# EAGLE library part ARUINO-MEGA (library iceberg20)
Arudino Mega 2560, 7-12V Datenblatt: Link <https://store.arduino.cc/mega-2560-r3>
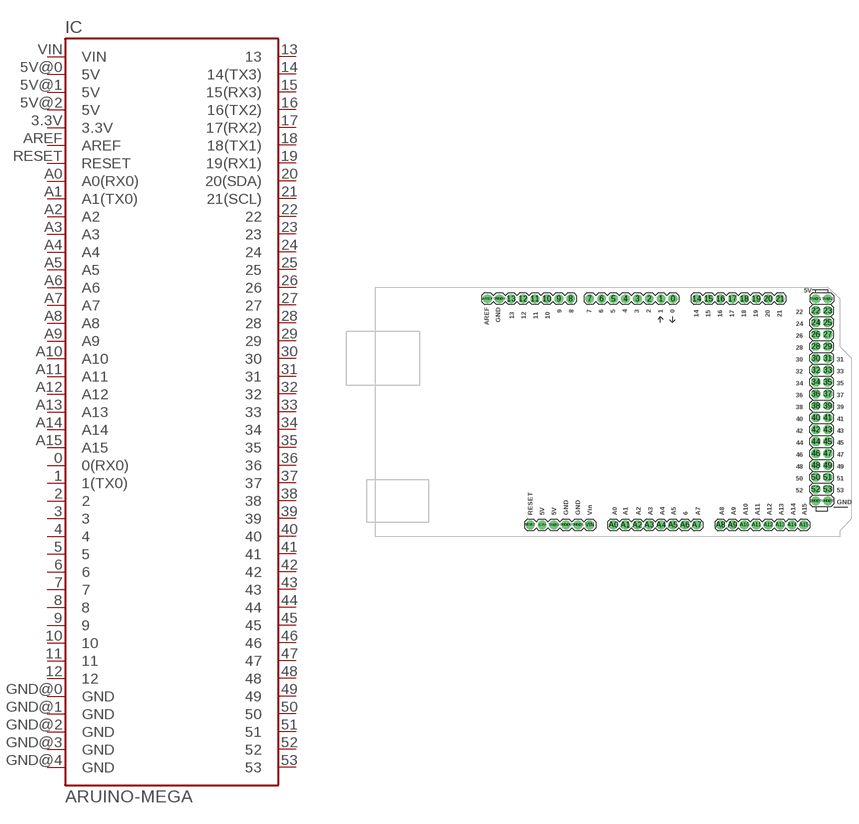
[diagram p2: symbol with the pads of ARDUINO_MEGA; footprint ARDUINO_MEGA]

Designator prefix IC

## ARUINO-MEGA (BESTAND: 4; HERSTELLER: Arduino; HERSTELLER-NR: Arduino Mega 2560; SUPPLIER: Makerstore; SUPPLIER-NR: Arduino Mega 2650)  [ARDUINO_MEGA]
0  0(RX0)
1  1(TX0)
2  2
3  3
3.3V  3.3V  out
4  4
5  5
5V@0  5V  out
5V@1  5V  out
5V@2  5V  out
6  6
7  7
8  8
9  9
10  10
11  11
12  12
13  13
14  14(TX3)  out
15  15(RX3)  in
16  16(TX2)  out
17  17(RX2)  in
18  18(TX1)  out
19  19(RX1)  in
20  20(SDA)
21  21(SCL)
22  22
23  23
24  24
25  25
26  26
27  27
28  28
29  29
30  30
31  31
32  32
33  33
34  34
35  35
36  36
37  37
38  38
39  39
40  40
41  41
42  42
43  43
44  44
45  45
46  46
47  47
48  48
49  49
50  50
51  51
52  52
53  53
A0  A0(RX0)
A1  A1(TX0)
A2  A2
A3  A3
A4  A4
A5  A5
A6  A6
A7  A7
A8  A8
A9  A9
A10  A10
A11  A11
A12  A12
A13  A13
A14  A14
A15  A15
AREF  AREF  in
GND@0  GND  pwr
GND@1  GND  pwr
GND@2  GND  pwr
GND@3  GND  pwr
GND@4  GND  pwr
RESET  RESET  in
VIN  VIN  pwr

## Footprint ARDUINO_MEGA (pad centres in mm)
drill 1.016 pad 1.88: 0 11.43,25.4; 1 8.89,25.4; 2 6.35,25.4; 3 3.81,25.4; 3.3V -16.51,-22.86; 4 1.27,25.4; 5 -1.27,25.4; 5V@0 -13.97,-22.86; 5V@1 41.91,25.4; 5V@2 44.45,25.4; 6 -3.81,25.4; 7 -6.35,25.4; 8 -10.414,25.4; 9 -12.954,25.4; 10 -15.494,25.4; 11 -18.034,25.4; 12 -20.574,25.4; 13 -23.114,25.4; 14 16.51,25.4; 15 19.05,25.4; 16 21.59,25.4; 17 24.13,25.4; 18 26.67,25.4; 19 29.21,25.4; 20 31.75,25.4; 21 34.29,25.4; A0 -1.27,-22.86; A1 1.27,-22.86; A2 3.81,-22.86; A3 6.35,-22.86; A4 8.89,-22.86; A5 11.43,-22.86; A6 13.97,-22.86; A7 16.51,-22.86; A8 21.59,-22.86; A9 24.13,-22.86; A10 26.67,-22.86; A11 29.21,-22.86; A12 31.75,-22.86; A13 34.29,-22.86; A14 36.83,-22.86; A15 39.37,-22.86; AREF -28.194,25.4; GND@0 -11.43,-22.86; GND@1 -8.89,-22.86; GND@2 41.91,-17.78; GND@3 44.45,-17.78; GND@4 -25.654,25.4; RESET -19.05,-22.86; VIN -6.35,-22.86
drill 1.016 pad 1.88 octagon: 22 41.91,22.86; 23 44.45,22.86; 24 41.91,20.32; 25 44.45,20.32; 26 41.91,17.78; 27 44.45,17.78; 28 41.91,15.24; 29 44.45,15.24; 30 41.91,12.7; 31 44.45,12.7; 32 41.91,10.16; 33 44.45,10.16; 34 41.91,7.62; 35 44.45,7.62; 36 41.91,5.08; 37 44.45,5.08; 38 41.91,2.54; 39 44.45,2.54; 40 41.91,0; 41 44.45,0; 42 41.91,-2.54; 43 44.45,-2.54; 44 41.91,-5.08; 45 44.45,-5.08; 46 41.91,-7.62; 47 44.45,-7.62; 48 41.91,-10.16; 49 44.45,-10.16; 50 41.91,-12.7; 51 44.45,-12.7; 52 41.91,-15.24; 53 44.45,-15.24